# Altium schematic symbol library BLM18BD421SZ1D.SchLib: 1 symbol
Pins are listed as number, name and electrical type; pins without a type are passive.

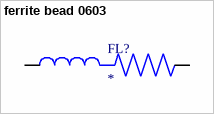
[diagram p0: symbol ferrite bead 0603]

## ferrite bead 0603
designator FL?
ferrite bead 0603; MP: BLM18BD421SZ1D; Package: None; Price: None; Value: *; Availability: Unavailable
footprint BEADC1608X95N
pins: 1, 2